# Altium schematic symbol library Schottky Diode.SchLib: 1 symbol
Pins are listed as number, name and electrical type; pins without a type are passive.

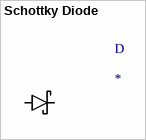
[diagram p0: symbol Schottky Diode]

## Schottky Diode
designator D
footprint Schottky Diode (SODFL, 2-Leads, Body 1.60x3.70mm, IPC Medium Density)
pins: 1, 2